# Altium integrated library CL21A226KOQNNNG.IntLib: 1 symbol
Pins are listed as number, name and electrical type; pins without a type are passive.

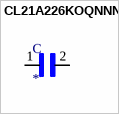
[diagram p0: symbol CL21A226KOQNNNG]

## CL21A226KOQNNNG
designator C
22ÂµF Â±10% 16V Ceramic Capacitor X5R 0805 _2012 Metric_; MF: Samsung Electro-Mechanics; MP: CL21A226KOQNNNG; Price: None; Package: 0805 Samsung; Availability: Unavailable; SnapEDA_Link: https://www.snapeda.com/parts/CL21A226KOQNNNG/Samsung%20Electro-Mechanics/view-part/3598210/?ref=snap; Value: *
footprint CAPC2012X135N
pins: 1, 2